# EAGLE library part TPS7A30 (library tcspc_lib)
-35V -200mA ultralow noise negative linear regulator
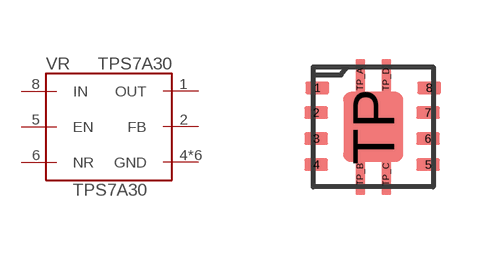
[diagram p6: symbol with the pads of VSON; footprint VSON]

Designator prefix VR

## TPS7A30  [VSON]
1  OUT
2  FB
4  GND
5  EN
6  NR
8  IN
TP  GND
TP_A  GND
TP_B  GND
TP_C  GND
TP_D  GND

## Footprint VSON (pad centres in mm)
smd 0.6 x 0.31: 1 -1.4,0.975; 2 -1.43,0.355; 3 -1.43,-0.295; 4 -1.43,-0.945; 5 1.37,-0.945; 6 1.37,-0.295; 7 1.37,0.355; 8 1.4,0.975
smd 1.5 x 1.75: TP 0,0
smd 0.23 x 1.025: TP_A -0.325,1.188; TP_B -0.325,-1.188; TP_C 0.325,-1.188; TP_D 0.325,1.188